# EAGLE library part IMU (library RoboJackets-Boards)
RoboCup's IMU breakout board
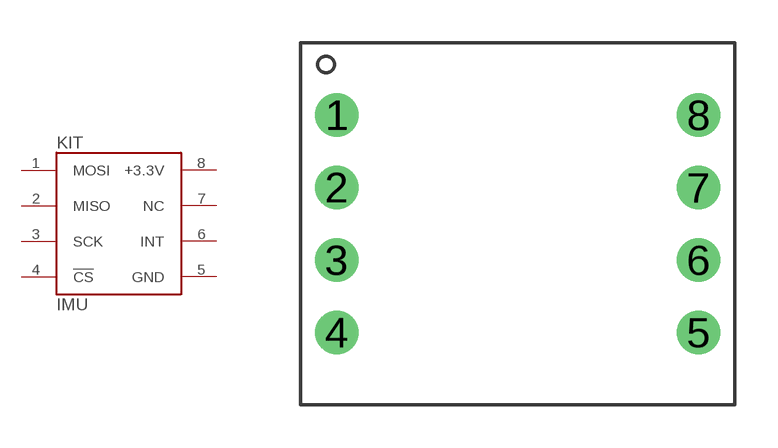
[diagram p3: symbol with the pads of IMU; footprint IMU]

Designator prefix KIT

## IMU  [IMU]
1  MOSI
2  MISO
3  SCK
4  !CS!
5  GND
6  INT
7  NC
8  +3.3V

## Footprint IMU (pad centres in mm)
drill 1.016: 1 -6.35,3.81; 2 -6.35,1.27; 3 -6.35,-1.27; 4 -6.35,-3.81; 5 6.35,-3.81; 6 6.35,-1.27; 7 6.35,1.27; 8 6.35,3.81